# Altium schematic symbol library AT25SF161-SSHD-T.SchLib: 1 symbol
Pins are listed as number, name and electrical type; pins without a type are passive.

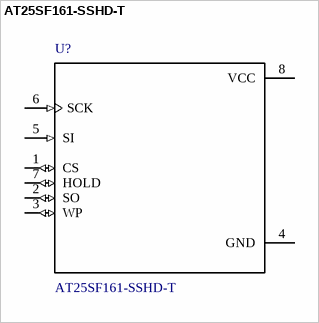
[diagram p0: symbol AT25SF161-SSHD-T]

## AT25SF161-SSHD-T
designator U?
/ NOR Flash Serial-SPI 3.3V 16Mbit 16M x 1Bit 8ns 8-Pin SOIC T/R /; MF: Adesto Technologies; Package: SOIC-8 Adesto Technologies; Price: None; MP: AT25SF161-SSHD-T; Availability: Unavailable; SnapEDA_Link: https://www.snapeda.com/parts/AT25SF161-SSHD-T/Adesto%20Technologies/view-part/?ref=snap; Value: *
footprint *SOIC127P600X175-8N
pins: 1 CS (io), 2 SO (io), 3 WP (io), 4 GND (power), 5 SI (in), 6 SCK (in), 7 HOLD (io), 8 VCC (power)